# Altium footprint library IMU_BMA400.PcbLib: 1 footprints
Each footprint in its own frame and in the unit in brackets; x right, y up, seen from the top. Pads: shape width x height; smd on the part's side, far side on the other; paste and mask are expansions set on the pad; w line width, h text height; cw(c..) or ccw(c..) is an arc to the next point about the centre after c.
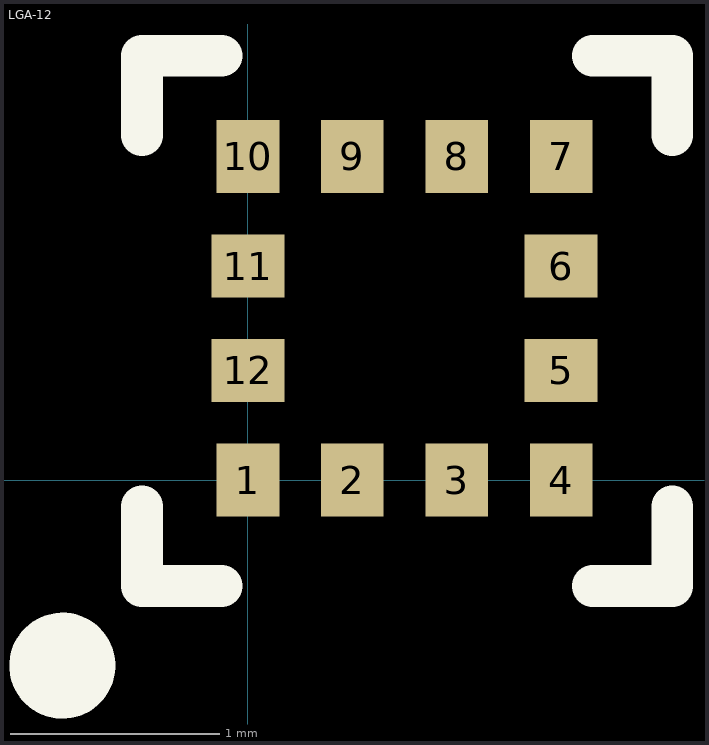
[diagram p0: the footprint, top view; thin cyan lines are the x and y axes]

## LGA-12 [mm]
pads (12):
  rect 0.3x0.35 smd: 1(0,0) 2(0.5,0) 3(1,0) 4(1.5,0) 7(1.5,1.55) 8(1,1.55) 9(0.5,1.55) 10(0,1.55)
  rect 0.35x0.3 smd: 5(1.5,0.525) 6(1.5,1.025) 11(0,1.025) 12(0,0.525)
Top Overlay:
  circle w0.254: c-0.889,-0.889 r0.127
  lines w0.2: -0.508,-0.127 -0.508,-0.508 -0.127,-0.508 ; -0.508,1.651 -0.508,2.032 -0.127,2.032 ; 1.651,-0.508 2.032,-0.508 2.032,-0.127 ; 1.651,2.032 2.032,2.032 2.032,1.651
3D body: height 1, standoff 1, extent -0.277,-0.277 1.777,1.827